# Altium schematic symbol library SS34-A.SchLib: 1 symbol
Pins are listed as number, name and electrical type; pins without a type are passive.

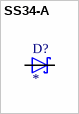
[diagram p0: symbol SS34-A]

## SS34-A
designator D?
34 Position Cable Assembly Rectangular Socket to Cable 3.00' (914.40mm); MP: SS34A; MF: TE Connectivity; Availability: Unavailable; SnapEDA_Link: https://www.snapeda.com/parts/SS34A/TE%20Connectivity%20AMP%20Connectors/view-part/585916/?ref=snap; Check_prices: https://www.snapeda.com/parts/SS34A/TE%20Connectivity%20AMP%20Connectors/view-part/585916/?ref=eda; Package: DO-214 Multicomp; Price: None; Value: *
footprint SS34-1
pins: A, C